# Altium integrated library TI Data Converters Digital to Analog Converter.IntLib: 1533 symbols (part 57 of 99)
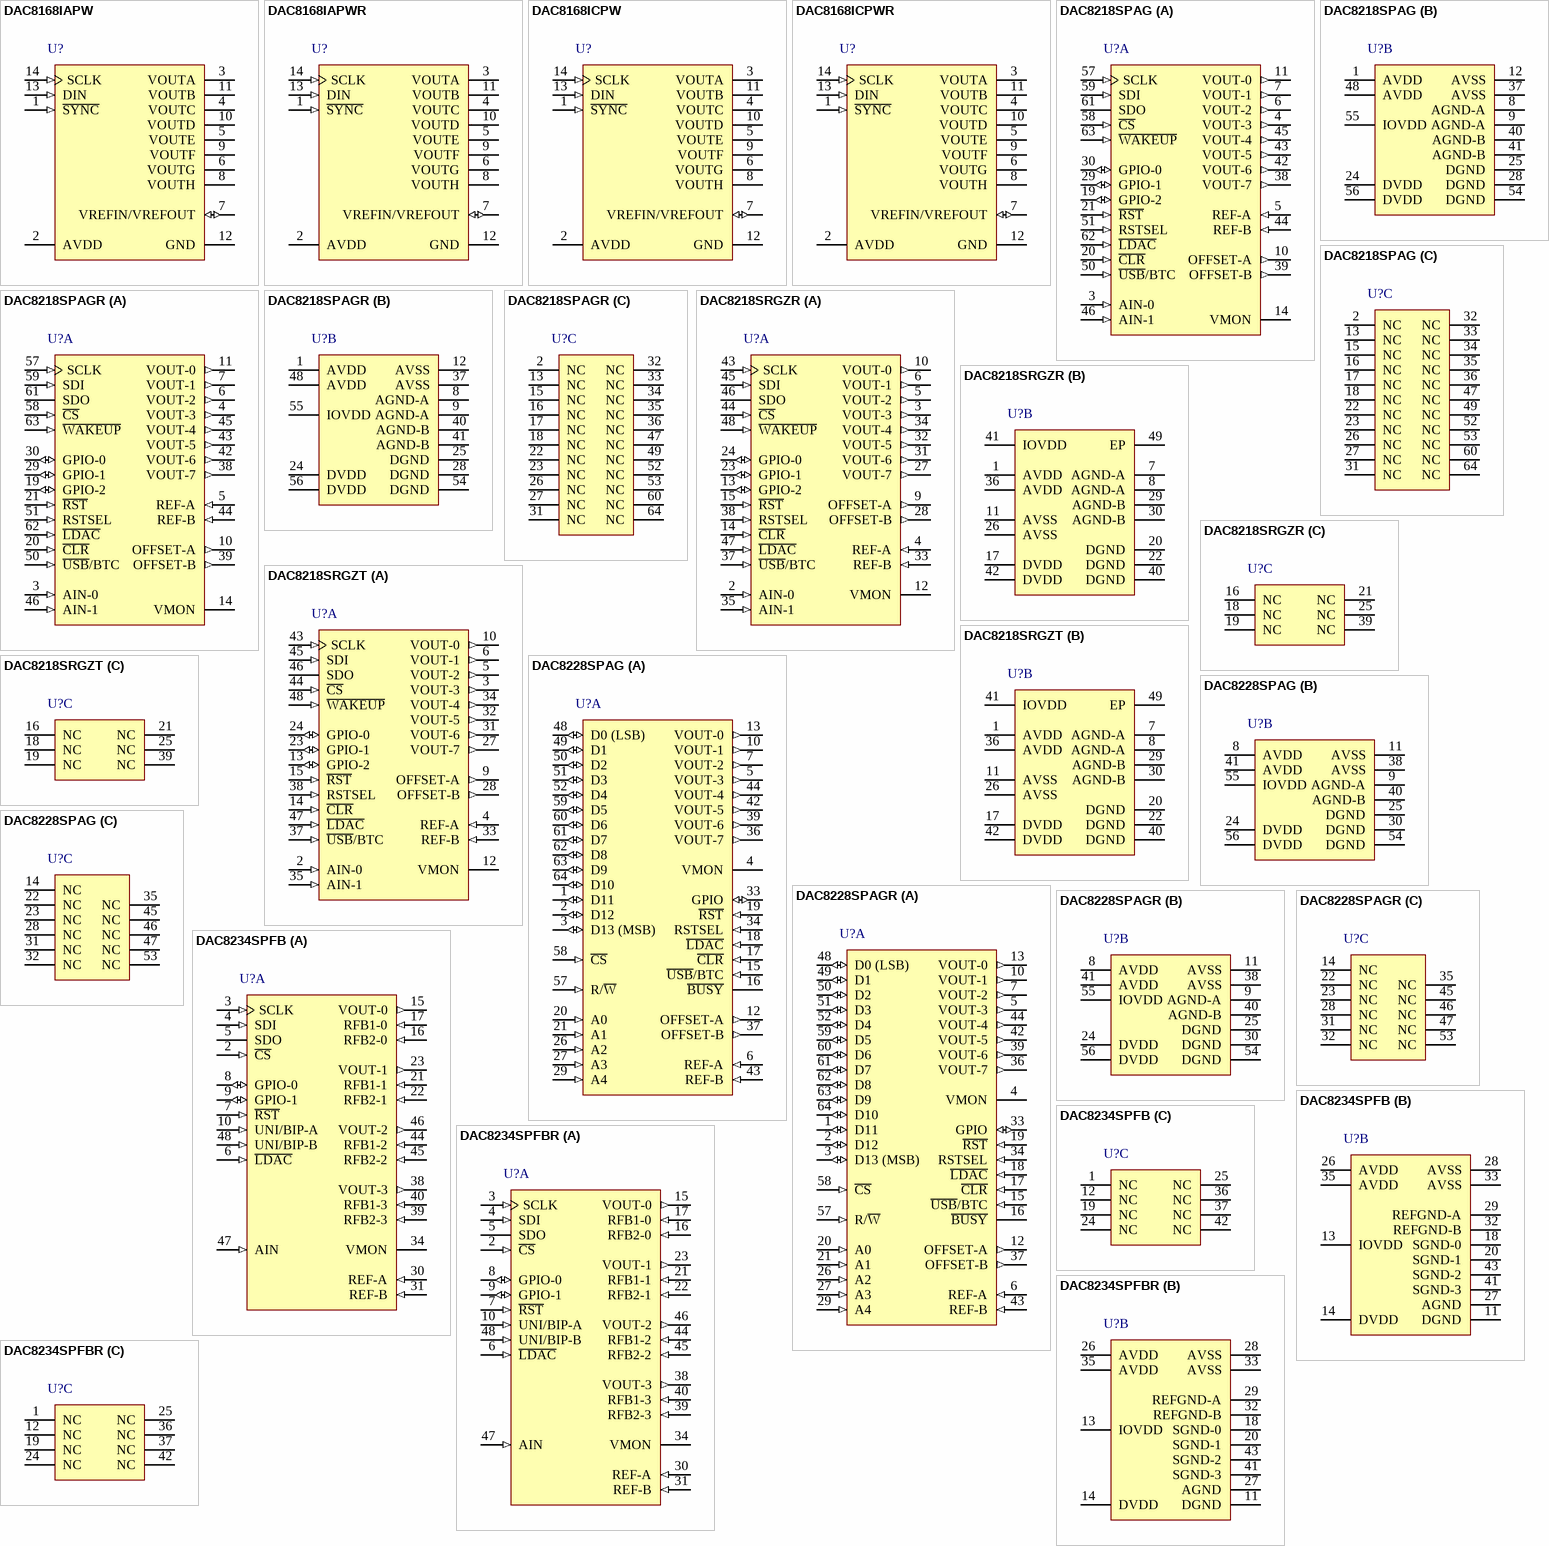
[diagram p129: symbols DAC8168IAPW to DAC8234SPFBR]

## DAC8234SPFB
designator U?
Quad 14-Bit High Accuracy +/- 16.5 V Output Serial Input DAC, -40 to 105 degC, 48-pin QFP (PFB48), Green (RoHS & no Sb/Br); Manufacturer: Texas Instruments; PartNumber: DAC8234SPFB; DAC Channels: 4; DNL(Max)(+/-LSB): 0.5; Interface: Serial SPI; Power Consumption(Typ)(mW): 290; Resolution(Bits): 14; Settling Time(us): 6; SubFamily: Precision DAC (=<10MSPS); DatasheetVersion: SBAS464A; PackageVersion: 4073176/B, 10/1996; PackageReference: PFB48; PackageDescription: 48-Pin Plastic Flat Pack, Body 7 x 7 mm, Pitch 0.5 mm; Supplier 1: Digi-Key; Supplier Part Number 1: 296-25115-ND; Supplier 2: Newark; Supplier Part Number 2: 50R7659; Supplier 3: Mouser; Supplier Part Number 3: 595-DAC8234SPFB; Eco-Plan: Green (RoHS & no Sb/Br); INL(Max)(+/-LSB): 0.5; Mounting Technology: Surface Mount; Code_JEDEC: MS-026; ComponentLink1Description: Manufacturer URL; ComponentLink1URL: http://www.ti.com/; ComponentLink2Description: Datasheet; ComponentLink2URL: http://www.ti.com/general/docs/lit/getliterature.tsp?genericPartNumber=DAC8234&fileType=pdf; ComponentLink3Description: Package Specification; ComponentLink3URL: http://www.ti.com/lit/ml/mtqf019a/mtqf019a.pdf
footprint TI-PFB48_N (QFP, 48-Leads, Body 7x7mm, Pitch 0.5mm, IPC Medium Density)
footprint TI-PFB48_L (QFP, 48-Leads, Body 7x7mm, Pitch 0.5mm, IPC High Density)
footprint TI-PFB48_M (QFP, 48-Leads, Body 7x7mm, Pitch 0.5mm, IPC Low Density)
part A pins: 2 ~{CS} (in) "SPI bus chip select input (active low). Data are not clocked into the SPI shift register unless C\S\ is low. When C\S\ is high, SDO is in a high-impedance state.", 3 SCLK (in) "SPI bus clock", 4 SDI (in) "SPI bus input data", 5 SDO (hiz) "SPI output data", 6 ~{LDAC} (in) "Load DAC latch control input (active low). When L\D\A\C\ is low, the DAC latch is transparent and the contents of the Input Data Register are transferred to it. The DAC output changes to the corresponding level (See Datasheet)", 7 ~{RST} (in) "Reset input (active low). Logic low on this pin resets the input registers and DACs to the values defined by the UNI/BIP pins, and sets the Gain Register and Zero Register to default values.", 8 GPIO-0 (io) "General-purpose digital input/output 0. This pin is a bidirectional, digital input/output, and has an open-drain output. A 10kO pull-up resistor to IOVDD is needed when this pin is used as an output. See the GPIO Pins (See Datasheet)", 9 GPIO-1 (io) "General-purpose digital input/output 1. This pin is a bidirectional, digital input/output, and has an open-drain output. A 10kO pull-up resistor to IOVDD is needed when this pin is used as an output. See the GPIO Pins (See Datasheet)", 10 UNI/BIP-A (in) "Output mode selection of group A (DAC-0 and DAC-1). When UNI/BIP-A is tied to IOVDD, group A is in unipolar output mode; when tied to DGND, group A is in bipolar output mode. The input data written to the DAC are straight (See Datasheet)", 15 VOUT-0 (out) "DAC-0 output", 16 RFB2-0 (in) "DAC-0 RFB2 feedback", 17 RFB1-0 (in) "DAC-0 RFB1 feedback", 21 RFB1-1 (in) "DAC-1 RFB1 feedback", 22 RFB2-1 (in) "DAC-1 RFB2 feedback", 23 VOUT-1 (out) "DAC-1 output", 30 REF-A (in) "Group A (DAC-0, DAC-1) reference input", 31 REF-B (in) "Group B (DAC-2, DAC-3) reference input", 34 VMON (hiz) "Analog monitor output. This pin is either in Hi-Z status, or connected to one of the four DAC outputs or AIN, depending on the content of the Monitor Register.", 38 VOUT-3 (out) "DAC-3 output", 39 RFB2-3 (in) "DAC-3 RFB2 feedback", 40 RFB1-3 (in) "DAC-3 RFB1 feedback", 44 RFB1-2 (in) "DAC-2 RFB1 feedback", 45 RFB2-2 (in) "DAC-2 RFB2 feedback", 46 VOUT-2 (out) "DAC-2 output", 47 AIN (in) "Auxiliary analog input. Connected to the analog monitor mux.", 48 UNI/BIP-B (in) "Output mode selection of group B (DAC-2 and DAC-3). When UNI/BIP-A is tied to IOVDD, group B is in unipolar output mode; when tied to DGND, group B is in bipolar output mode. The input data written to the DAC are straight (See Datasheet)"
part B pins: 11 DGND (power) "Digital ground", 13 IOVDD (power) "Interface power", 14 DVDD (power) "Digital power", 18 SGND-0 (power) "DAC-0 signal ground. Connected to REFGND-A.", 20 SGND-1 (power) "DAC-1 signal ground. Connected to REFGND-A.", 26 AVDD (power) "Positive analog power supply", 27 AGND (power) "Analog ground", 28 AVSS (power) "Negative analog power supply", 29 REFGND-A (power) "Reference REF-A ground. Connect to AGND.", 32 REFGND-B (power) "Reference REF-B ground. Connect to AGND.", 33 AVSS (power) "Negative analog power supply", 35 AVDD (power) "Positive analog power supply", 41 SGND-3 (power) "DAC-3 signal ground. Connected to REFGND-B.", 43 SGND-2 (power) "DAC-2 signal ground. Connected to REFGND-B."
part C pins: 1 NC "Not connected", 12 NC "Not connected", 19 NC "Not connected", 24 NC "Not connected", 25 NC "Not connected", 36 NC "Not connected", 37 NC "Not connected", 42 NC "Not connected"

## DAC8234SPFBR
designator U?
Quad 14-Bit High Accuracy +/- 16.5 V Output Serial Input DAC, -40 to 105 degC, 48-pin QFP (PFB48), Green (RoHS & no Sb/Br); Manufacturer: Texas Instruments; PartNumber: DAC8234SPFBR; DAC Channels: 4; DNL(Max)(+/-LSB): 0.5; Interface: Serial SPI; Power Consumption(Typ)(mW): 290; Resolution(Bits): 14; Settling Time(us): 6; SubFamily: Precision DAC (=<10MSPS); DatasheetVersion: SBAS464A; PackageVersion: 4073176/B, 10/1996; PackageReference: PFB48; PackageDescription: 48-Pin Plastic Flat Pack, Body 7 x 7 mm, Pitch 0.5 mm; Supplier 1: Digi-Key; Supplier Part Number 1: DAC8234SPFBR-ND; Supplier 2: Mouser; Supplier Part Number 2: 595-DAC8234SPFBR; Eco-Plan: Green (RoHS & no Sb/Br); INL(Max)(+/-LSB): 0.5; Mounting Technology: Surface Mount; Code_JEDEC: MS-026; ComponentLink1Description: Manufacturer URL; ComponentLink1URL: http://www.ti.com/; ComponentLink2Description: Datasheet; ComponentLink2URL: http://www.ti.com/general/docs/lit/getliterature.tsp?genericPartNumber=DAC8234&fileType=pdf; ComponentLink3Description: Package Specification; ComponentLink3URL: http://www.ti.com/lit/ml/mtqf019a/mtqf019a.pdf
footprint TI-PFB48_N (QFP, 48-Leads, Body 7x7mm, Pitch 0.5mm, IPC Medium Density)
footprint TI-PFB48_L (QFP, 48-Leads, Body 7x7mm, Pitch 0.5mm, IPC High Density)
footprint TI-PFB48_M (QFP, 48-Leads, Body 7x7mm, Pitch 0.5mm, IPC Low Density)
part A pins: 2 ~{CS} (in) "SPI bus chip select input (active low). Data are not clocked into the SPI shift register unless C\S\ is low. When C\S\ is high, SDO is in a high-impedance state.", 3 SCLK (in) "SPI bus clock", 4 SDI (in) "SPI bus input data", 5 SDO (hiz) "SPI output data", 6 ~{LDAC} (in) "Load DAC latch control input (active low). When L\D\A\C\ is low, the DAC latch is transparent and the contents of the Input Data Register are transferred to it. The DAC output changes to the corresponding level (See Datasheet)", 7 ~{RST} (in) "Reset input (active low). Logic low on this pin resets the input registers and DACs to the values defined by the UNI/BIP pins, and sets the Gain Register and Zero Register to default values.", 8 GPIO-0 (io) "General-purpose digital input/output 0. This pin is a bidirectional, digital input/output, and has an open-drain output. A 10kO pull-up resistor to IOVDD is needed when this pin is used as an output. See the GPIO Pins (See Datasheet)", 9 GPIO-1 (io) "General-purpose digital input/output 1. This pin is a bidirectional, digital input/output, and has an open-drain output. A 10kO pull-up resistor to IOVDD is needed when this pin is used as an output. See the GPIO Pins (See Datasheet)", 10 UNI/BIP-A (in) "Output mode selection of group A (DAC-0 and DAC-1). When UNI/BIP-A is tied to IOVDD, group A is in unipolar output mode; when tied to DGND, group A is in bipolar output mode. The input data written to the DAC are straight (See Datasheet)", 15 VOUT-0 (out) "DAC-0 output", 16 RFB2-0 (in) "DAC-0 RFB2 feedback", 17 RFB1-0 (in) "DAC-0 RFB1 feedback", 21 RFB1-1 (in) "DAC-1 RFB1 feedback", 22 RFB2-1 (in) "DAC-1 RFB2 feedback", 23 VOUT-1 (out) "DAC-1 output", 30 REF-A (in) "Group A (DAC-0, DAC-1) reference input", 31 REF-B (in) "Group B (DAC-2, DAC-3) reference input", 34 VMON (hiz) "Analog monitor output. This pin is either in Hi-Z status, or connected to one of the four DAC outputs or AIN, depending on the content of the Monitor Register.", 38 VOUT-3 (out) "DAC-3 output", 39 RFB2-3 (in) "DAC-3 RFB2 feedback", 40 RFB1-3 (in) "DAC-3 RFB1 feedback", 44 RFB1-2 (in) "DAC-2 RFB1 feedback", 45 RFB2-2 (in) "DAC-2 RFB2 feedback", 46 VOUT-2 (out) "DAC-2 output", 47 AIN (in) "Auxiliary analog input. Connected to the analog monitor mux.", 48 UNI/BIP-B (in) "Output mode selection of group B (DAC-2 and DAC-3). When UNI/BIP-A is tied to IOVDD, group B is in unipolar output mode; when tied to DGND, group B is in bipolar output mode. The input data written to the DAC are straight (See Datasheet)"
part B pins: 11 DGND (power) "Digital ground", 13 IOVDD (power) "Interface power", 14 DVDD (power) "Digital power", 18 SGND-0 (power) "DAC-0 signal ground. Connected to REFGND-A.", 20 SGND-1 (power) "DAC-1 signal ground. Connected to REFGND-A.", 26 AVDD (power) "Positive analog power supply", 27 AGND (power) "Analog ground", 28 AVSS (power) "Negative analog power supply", 29 REFGND-A (power) "Reference REF-A ground. Connect to AGND.", 32 REFGND-B (power) "Reference REF-B ground. Connect to AGND.", 33 AVSS (power) "Negative analog power supply", 35 AVDD (power) "Positive analog power supply", 41 SGND-3 (power) "DAC-3 signal ground. Connected to REFGND-B.", 43 SGND-2 (power) "DAC-2 signal ground. Connected to REFGND-B."
part C pins: 1 NC "Not connected", 12 NC "Not connected", 19 NC "Not connected", 24 NC "Not connected", 25 NC "Not connected", 36 NC "Not connected", 37 NC "Not connected", 42 NC "Not connected"

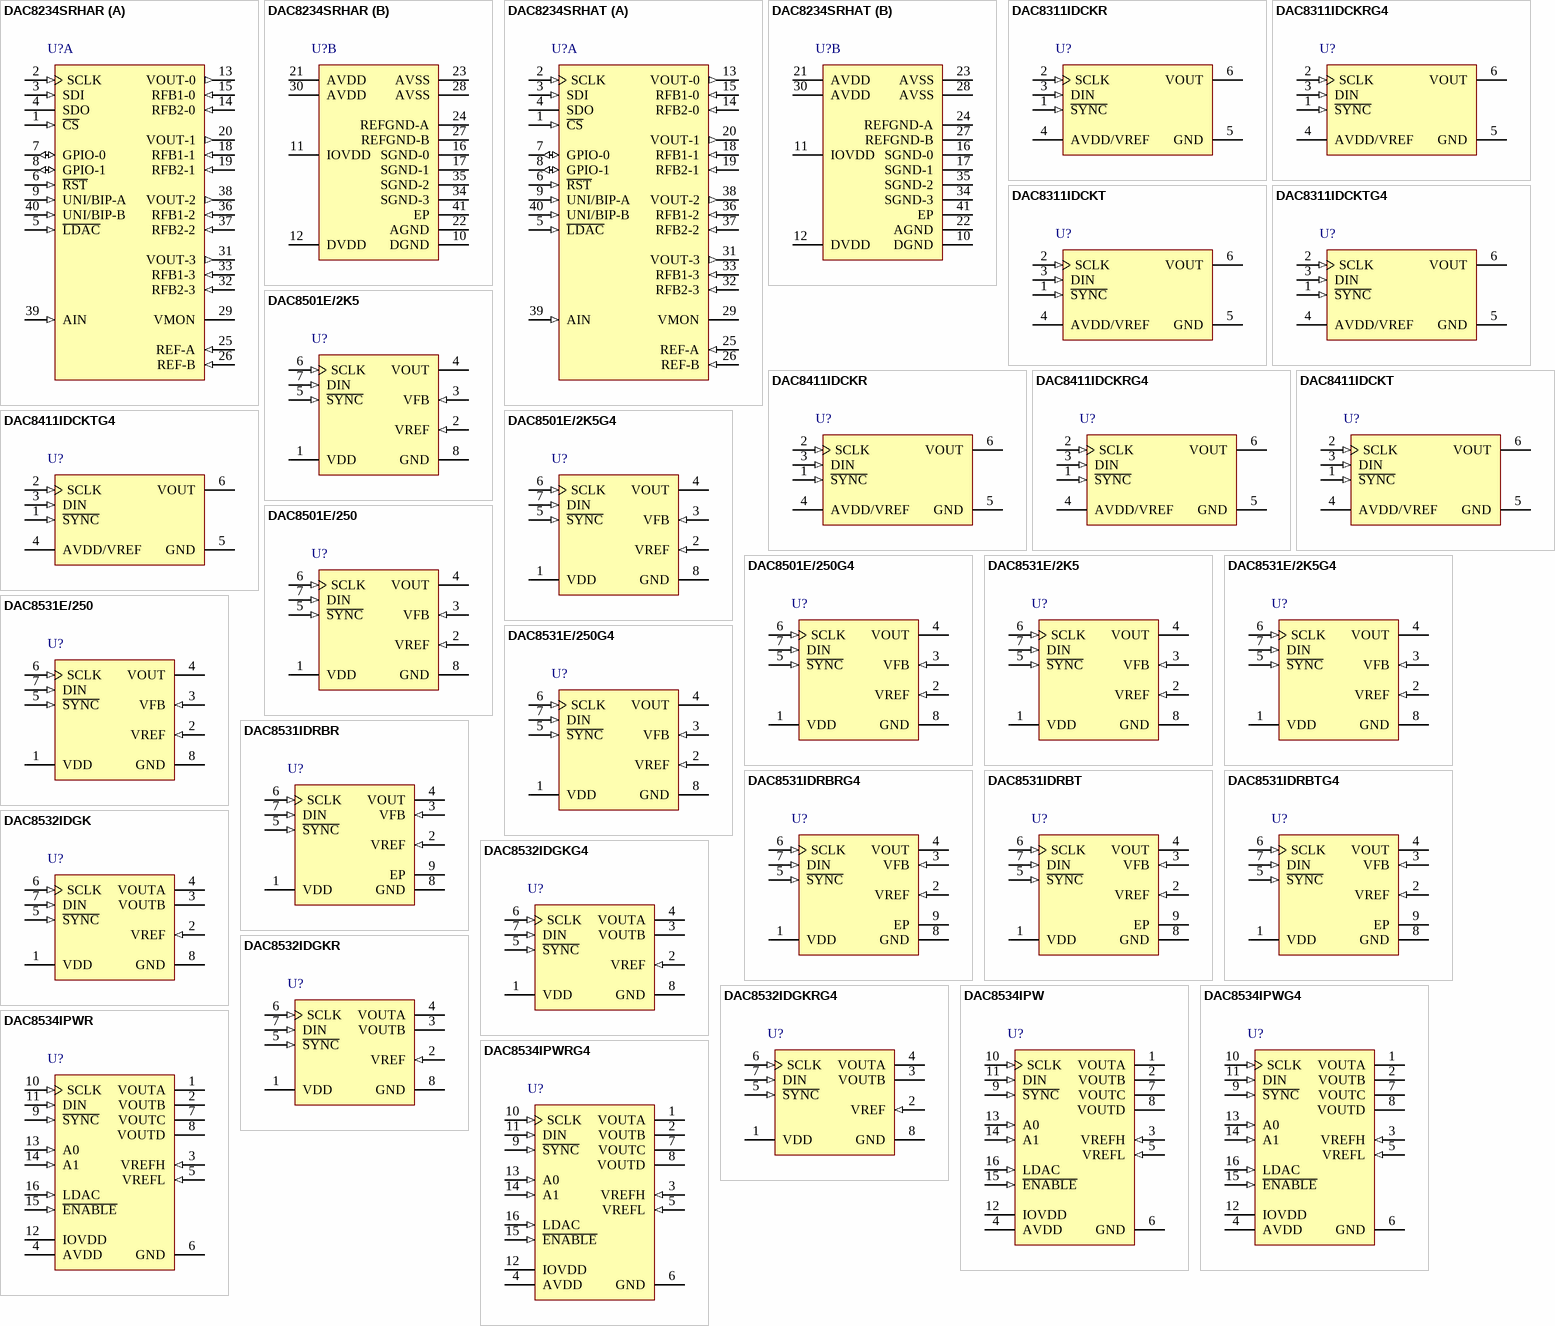
[diagram p45: symbols DAC8234SRHAR to DAC8534IPWRG4]

## DAC8234SRHAR
designator U?
Quad 14-Bit High Accuracy +/- 16.5 V Output Serial Input DAC, -40 to 105 degC, 40-pin QFN (RHA40), Green (RoHS & no Sb/Br); Manufacturer: Texas Instruments; PartNumber: DAC8234SRHAR; DAC Channels: 4; DNL(Max)(+/-LSB): 0.5; Interface: Serial SPI; Power Consumption(Typ)(mW): 290; Resolution(Bits): 14; Settling Time(us): 6; SubFamily: Precision DAC (=<10MSPS); DatasheetVersion: SBAS464A; PackageVersion: 4204276/E, 06/2011; PackageReference: RHA40-4500X4500TP; PackageDescription: 40-Pin Plastic Quad Flatpack No-Lead, Body 6 x 6 mm, Pitch 0.5 mm; Supplier 1: Digi-Key; Supplier Part Number 1: DAC8234SRHAR-ND; Supplier 2: Mouser; Supplier Part Number 2: 595-DAC8234SRHAR; Eco-Plan: Green (RoHS & no Sb/Br); INL(Max)(+/-LSB): 0.5; Mounting Technology: Surface Mount; Code_JEDEC: MO-220; ComponentLink1Description: Manufacturer URL; ComponentLink1URL: http://www.ti.com/; ComponentLink2Description: Datasheet; ComponentLink2URL: http://www.ti.com/general/docs/lit/getliterature.tsp?genericPartNumber=DAC8234&fileType=pdf; ComponentLink3Description: Package Specification; ComponentLink3URL: http://www.ti.com/litv/pdf/mpqf135c
footprint TI-RHA40-4500X4500TP_V (QFN, 40-Leads, Body 6x6mm, Pitch 0.5mm, Thermal Pad 4.5x4.5mm)
part A pins: 1 ~{CS} (in) "SPI bus chip select input (active low). Data are not clocked into the SPI shift register unless C\S\ is low. When C\S\ is high, SDO is in a high-impedance state.", 2 SCLK (in) "SPI bus clock", 3 SDI (in) "SPI bus input data", 4 SDO (hiz) "SPI output data", 5 ~{LDAC} (in) "Load DAC latch control input (active low). When L\D\A\C\ is low, the DAC latch is transparent and the contents of the Input Data Register are transferred to it. The DAC output changes to the corresponding level (See Datasheet)", 6 ~{RST} (in) "Reset input (active low). Logic low on this pin resets the input registers and DACs to the values defined by the UNI/BIP pins, and sets the Gain Register and Zero Register to default values.", 7 GPIO-0 (io) "General-purpose digital input/output 0. This pin is a bidirectional, digital input/output, and has an open-drain output. A 10kO pull-up resistor to IOVDD is needed when this pin is used as an output. See the GPIO Pins (See Datasheet)", 8 GPIO-1 (io) "General-purpose digital input/output 1. This pin is a bidirectional, digital input/output, and has an open-drain output. A 10kO pull-up resistor to IOVDD is needed when this pin is used as an output. See the GPIO Pins (See Datasheet)", 9 UNI/BIP-A (in) "Output mode selection of group A (DAC-0 and DAC-1). When UNI/BIP-A is tied to IOVDD, group A is in unipolar output mode; when tied to DGND, group A is in bipolar output mode. The input data written to the DAC are straight (See Datasheet)", 13 VOUT-0 (out) "DAC-0 output", 14 RFB2-0 (in) "DAC-0 RFB2 feedback", 15 RFB1-0 (in) "DAC-0 RFB1 feedback", 18 RFB1-1 (in) "DAC-1 RFB1 feedback", 19 RFB2-1 (in) "DAC-1 RFB2 feedback", 20 VOUT-1 (out) "DAC-1 output", 25 REF-A (in) "Group A (DAC-0, DAC-1) reference input", 26 REF-B (in) "Group B (DAC-2, DAC-3) reference input", 29 VMON (hiz) "Analog monitor output. This pin is either in Hi-Z status, or connected to one of the four DAC outputs or AIN, depending on the content of the Monitor Register.", 31 VOUT-3 (out) "DAC-3 output", 32 RFB2-3 (in) "DAC-3 RFB2 feedback", 33 RFB1-3 (in) "DAC-3 RFB1 feedback", 36 RFB1-2 (in) "DAC-2 RFB1 feedback", 37 RFB2-2 (in) "DAC-2 RFB2 feedback", 38 VOUT-2 (out) "DAC-2 output", 39 AIN (in) "Auxiliary analog input. Connected to the analog monitor mux.", 40 UNI/BIP-B (in) "Output mode selection of group B (DAC-2 and DAC-3). When UNI/BIP-A is tied to IOVDD, group B is in unipolar output mode; when tied to DGND, group B is in bipolar output mode. The input data written to the DAC are straight (See Datasheet)"
part B pins: 10 DGND (power) "Digital ground", 11 IOVDD (power) "Interface power", 12 DVDD (power) "Digital power", 16 SGND-0 (power) "DAC-0 signal ground. Connected to REFGND-A.", 17 SGND-1 (power) "DAC-1 signal ground. Connected to REFGND-A.", 21 AVDD (power) "Positive analog power supply", 22 AGND (power) "Analog ground", 23 AVSS (power) "Negative analog power supply", 24 REFGND-A (power) "Reference REF-A ground. Connect to AGND.", 27 REFGND-B (power) "Reference REF-B ground. Connect to AGND.", 28 AVSS (power) "Negative analog power supply", 30 AVDD (power) "Positive analog power supply", 34 SGND-3 (power) "DAC-3 signal ground. Connected to REFGND-B.", 35 SGND-2 (power) "DAC-2 signal ground. Connected to REFGND-B.", 41 EP "The thermal pad is internally connected to the substrate. This pad can be connected to AVSS or left floating."

## DAC8234SRHAT
designator U?
Quad 14-Bit High Accuracy +/- 16.5 V Output Serial Input DAC, -40 to 105 degC, 40-pin QFN (RHA40), Green (RoHS & no Sb/Br); Manufacturer: Texas Instruments; PartNumber: DAC8234SRHAT; DAC Channels: 4; DNL(Max)(+/-LSB): 0.5; Interface: Serial SPI; Power Consumption(Typ)(mW): 290; Resolution(Bits): 14; Settling Time(us): 6; SubFamily: Precision DAC (=<10MSPS); DatasheetVersion: SBAS464A; PackageVersion: 4204276/E, 06/2011; PackageReference: RHA40-4500X4500TP; PackageDescription: 40-Pin Plastic Quad Flatpack No-Lead, Body 6 x 6 mm, Pitch 0.5 mm; Supplier 1: Digi-Key; Supplier Part Number 1: 296-25116-2-ND; Supplier 2: Digi-Key; Supplier Part Number 2: 296-25116-1-ND; Supplier 3: Digi-Key; Supplier Part Number 3: 296-25116-6-ND; Supplier 4: Mouser; Supplier Part Number 4: 595-DAC8234SRHAT; Eco-Plan: Green (RoHS & no Sb/Br); INL(Max)(+/-LSB): 0.5; Mounting Technology: Surface Mount; Code_JEDEC: MO-220; ComponentLink1Description: Manufacturer URL; ComponentLink1URL: http://www.ti.com/; ComponentLink2Description: Datasheet; ComponentLink2URL: http://www.ti.com/general/docs/lit/getliterature.tsp?genericPartNumber=DAC8234&fileType=pdf; ComponentLink3Description: Package Specification; ComponentLink3URL: http://www.ti.com/litv/pdf/mpqf135c
footprint TI-RHA40-4500X4500TP_V (QFN, 40-Leads, Body 6x6mm, Pitch 0.5mm, Thermal Pad 4.5x4.5mm)
part A pins: 1 ~{CS} (in) "SPI bus chip select input (active low). Data are not clocked into the SPI shift register unless C\S\ is low. When C\S\ is high, SDO is in a high-impedance state.", 2 SCLK (in) "SPI bus clock", 3 SDI (in) "SPI bus input data", 4 SDO (hiz) "SPI output data", 5 ~{LDAC} (in) "Load DAC latch control input (active low). When L\D\A\C\ is low, the DAC latch is transparent and the contents of the Input Data Register are transferred to it. The DAC output changes to the corresponding level (See Datasheet)", 6 ~{RST} (in) "Reset input (active low). Logic low on this pin resets the input registers and DACs to the values defined by the UNI/BIP pins, and sets the Gain Register and Zero Register to default values.", 7 GPIO-0 (io) "General-purpose digital input/output 0. This pin is a bidirectional, digital input/output, and has an open-drain output. A 10kO pull-up resistor to IOVDD is needed when this pin is used as an output. See the GPIO Pins (See Datasheet)", 8 GPIO-1 (io) "General-purpose digital input/output 1. This pin is a bidirectional, digital input/output, and has an open-drain output. A 10kO pull-up resistor to IOVDD is needed when this pin is used as an output. See the GPIO Pins (See Datasheet)", 9 UNI/BIP-A (in) "Output mode selection of group A (DAC-0 and DAC-1). When UNI/BIP-A is tied to IOVDD, group A is in unipolar output mode; when tied to DGND, group A is in bipolar output mode. The input data written to the DAC are straight (See Datasheet)", 13 VOUT-0 (out) "DAC-0 output", 14 RFB2-0 (in) "DAC-0 RFB2 feedback", 15 RFB1-0 (in) "DAC-0 RFB1 feedback", 18 RFB1-1 (in) "DAC-1 RFB1 feedback", 19 RFB2-1 (in) "DAC-1 RFB2 feedback", 20 VOUT-1 (out) "DAC-1 output", 25 REF-A (in) "Group A (DAC-0, DAC-1) reference input", 26 REF-B (in) "Group B (DAC-2, DAC-3) reference input", 29 VMON (hiz) "Analog monitor output. This pin is either in Hi-Z status, or connected to one of the four DAC outputs or AIN, depending on the content of the Monitor Register.", 31 VOUT-3 (out) "DAC-3 output", 32 RFB2-3 (in) "DAC-3 RFB2 feedback", 33 RFB1-3 (in) "DAC-3 RFB1 feedback", 36 RFB1-2 (in) "DAC-2 RFB1 feedback", 37 RFB2-2 (in) "DAC-2 RFB2 feedback", 38 VOUT-2 (out) "DAC-2 output", 39 AIN (in) "Auxiliary analog input. Connected to the analog monitor mux.", 40 UNI/BIP-B (in) "Output mode selection of group B (DAC-2 and DAC-3). When UNI/BIP-A is tied to IOVDD, group B is in unipolar output mode; when tied to DGND, group B is in bipolar output mode. The input data written to the DAC are straight (See Datasheet)"
part B pins: 10 DGND (power) "Digital ground", 11 IOVDD (power) "Interface power", 12 DVDD (power) "Digital power", 16 SGND-0 (power) "DAC-0 signal ground. Connected to REFGND-A.", 17 SGND-1 (power) "DAC-1 signal ground. Connected to REFGND-A.", 21 AVDD (power) "Positive analog power supply", 22 AGND (power) "Analog ground", 23 AVSS (power) "Negative analog power supply", 24 REFGND-A (power) "Reference REF-A ground. Connect to AGND.", 27 REFGND-B (power) "Reference REF-B ground. Connect to AGND.", 28 AVSS (power) "Negative analog power supply", 30 AVDD (power) "Positive analog power supply", 34 SGND-3 (power) "DAC-3 signal ground. Connected to REFGND-B.", 35 SGND-2 (power) "DAC-2 signal ground. Connected to REFGND-B.", 41 EP "The thermal pad is internally connected to the substrate. This pad can be connected to AVSS or left floating."

## DAC8311IDCKR
designator U?
14-Bit, Single Channel, 80 uA, 1.8 to 5.5 V DAC, -40 to 125 degC, 6-pin SOT23 (DCK6), Green (RoHS & no Sb/Br); Manufacturer: Texas Instruments; PartNumber: DAC8311IDCKR; DAC Channels: 1; INL(Max)(+/-LSB): 4; Interface: Serial SPI; Power Consumption(Typ)(mW): 0.14; Resolution(Bits): 14; Settling Time(us): 6; SFDR(dB): 66; SNR(dB): 88; SubFamily: Precision DAC (=<10MSPS); DatasheetVersion: SBAS439B; PackageVersion: 4093553-4/G, 01/2007; PackageReference: DCK6; PackageDescription: 6-Pin Plastic Small Outline, Body 2 x 1.25 mm, Pitch 0.65 mm; Supplier 1: Digi-Key; Supplier Part Number 1: DAC8311IDCKR-ND; Supplier 2: Mouser; Supplier Part Number 2: 595-DAC8311IDCKR; DNL(Max)(+/-LSB): 1; Eco-Plan: Green (RoHS & no Sb/Br); Mounting Technology: Surface Mount; Code_JEDEC: MO-203; ComponentLink1Description: Manufacturer URL; ComponentLink1URL: http://www.ti.com/; ComponentLink2Description: Datasheet; ComponentLink2URL: http://www.ti.com/general/docs/lit/getliterature.tsp?genericPartNumber=DAC8311&fileType=pdf; ComponentLink3Description: Package Specification; ComponentLink3URL: http://www.ti.com/litv/pdf/mpds114c
footprint TI-DCK6_V (SOT23, 6-Leads, Body 2x1.25mm, Pitch 0.65mm)
pins: 1 ~{SYNC} (in) "Level-triggered control input (active low). This is the frame sychronization signal for the input data. When S\Y\N\C\ goes low, it enables the input shift register and data are transferred in on the falling edges of the (See Datasheet)", 2 SCLK (in) "Serial Clock Input. Data can be transferred at rates up to 50MHz.", 3 DIN (in) "Serial Data Input. Data is clocked into the 24-bit (DAC8411) or 16-bit (DAC8311) input shift register on the falling edge of the serial clock input.", 4 AVDD/VREF (power) "Power Supply Input, +2.0V to 5.5V.", 5 GND (power) "Ground reference point for all circuitry on the part.", 6 VOUT (hiz) "Analog output voltage from DAC. The output amplifier has rail-to-rail operation."

## DAC8311IDCKRG4
designator U?
14-Bit, Single Channel, 80 uA, 1.8 to 5.5 V DAC, -40 to 125 degC, 6-pin SOT23 (DCK6), Green (RoHS & no Sb/Br); Manufacturer: Texas Instruments; PartNumber: DAC8311IDCKRG4; DAC Channels: 1; INL(Max)(+/-LSB): 4; Interface: Serial SPI; Power Consumption(Typ)(mW): 0.14; Resolution(Bits): 14; Settling Time(us): 6; SFDR(dB): 66; SNR(dB): 88; SubFamily: Precision DAC (=<10MSPS); DatasheetVersion: SBAS439B; PackageVersion: 4093553-4/G, 01/2007; PackageReference: DCK6; PackageDescription: 6-Pin Plastic Small Outline, Body 2 x 1.25 mm, Pitch 0.65 mm; Supplier 1: Digi-Key; Supplier Part Number 1: DAC8311IDCKRG4-ND; Supplier 2: Mouser; Supplier Part Number 2: 595-DAC8311IDCKRG4; DNL(Max)(+/-LSB): 1; Eco-Plan: Green (RoHS & no Sb/Br); Mounting Technology: Surface Mount; Code_JEDEC: MO-203; ComponentLink1Description: Manufacturer URL; ComponentLink1URL: http://www.ti.com/; ComponentLink2Description: Datasheet; ComponentLink2URL: http://www.ti.com/general/docs/lit/getliterature.tsp?genericPartNumber=DAC8311&fileType=pdf; ComponentLink3Description: Package Specification; ComponentLink3URL: http://www.ti.com/litv/pdf/mpds114c
footprint TI-DCK6_V (SOT23, 6-Leads, Body 2x1.25mm, Pitch 0.65mm)
pins: 1 ~{SYNC} (in) "Level-triggered control input (active low). This is the frame sychronization signal for the input data. When S\Y\N\C\ goes low, it enables the input shift register and data are transferred in on the falling edges of the (See Datasheet)", 2 SCLK (in) "Serial Clock Input. Data can be transferred at rates up to 50MHz.", 3 DIN (in) "Serial Data Input. Data is clocked into the 24-bit (DAC8411) or 16-bit (DAC8311) input shift register on the falling edge of the serial clock input.", 4 AVDD/VREF (power) "Power Supply Input, +2.0V to 5.5V.", 5 GND (power) "Ground reference point for all circuitry on the part.", 6 VOUT (hiz) "Analog output voltage from DAC. The output amplifier has rail-to-rail operation."

## DAC8311IDCKT
designator U?
14-Bit, Single Channel, 80 uA, 1.8 to 5.5 V DAC, -40 to 125 degC, 6-pin SOT23 (DCK6), Green (RoHS & no Sb/Br); Manufacturer: Texas Instruments; PartNumber: DAC8311IDCKT; DAC Channels: 1; INL(Max)(+/-LSB): 4; Interface: Serial SPI; Power Consumption(Typ)(mW): 0.14; Resolution(Bits): 14; Settling Time(us): 6; SFDR(dB): 66; SNR(dB): 88; SubFamily: Precision DAC (=<10MSPS); DatasheetVersion: SBAS439B; PackageVersion: 4093553-4/G, 01/2007; PackageReference: DCK6; PackageDescription: 6-Pin Plastic Small Outline, Body 2 x 1.25 mm, Pitch 0.65 mm; Supplier 1: Digi-Key; Supplier Part Number 1: 296-23760-2-ND; Supplier 2: Digi-Key; Supplier Part Number 2: 296-23760-1-ND; Supplier 3: Digi-Key; Supplier Part Number 3: 296-23760-6-ND; Supplier 4: Farnell; Supplier Part Number 4: 1679771; Supplier 5: Newark; Supplier Part Number 5: 09P8596; Supplier 6: Mouser; Supplier Part Number 6: 595-DAC8311IDCKT; DNL(Max)(+/-LSB): 1; Eco-Plan: Green (RoHS & no Sb/Br); Mounting Technology: Surface Mount; Code_JEDEC: MO-203; ComponentLink1Description: Manufacturer URL; ComponentLink1URL: http://www.ti.com/; ComponentLink2Description: Datasheet; ComponentLink2URL: http://www.ti.com/general/docs/lit/getliterature.tsp?genericPartNumber=DAC8311&fileType=pdf; ComponentLink3Description: Package Specification; ComponentLink3URL: http://www.ti.com/litv/pdf/mpds114c
footprint TI-DCK6_V (SOT23, 6-Leads, Body 2x1.25mm, Pitch 0.65mm)
pins: 1 ~{SYNC} (in) "Level-triggered control input (active low). This is the frame sychronization signal for the input data. When S\Y\N\C\ goes low, it enables the input shift register and data are transferred in on the falling edges of the (See Datasheet)", 2 SCLK (in) "Serial Clock Input. Data can be transferred at rates up to 50MHz.", 3 DIN (in) "Serial Data Input. Data is clocked into the 24-bit (DAC8411) or 16-bit (DAC8311) input shift register on the falling edge of the serial clock input.", 4 AVDD/VREF (power) "Power Supply Input, +2.0V to 5.5V.", 5 GND (power) "Ground reference point for all circuitry on the part.", 6 VOUT (hiz) "Analog output voltage from DAC. The output amplifier has rail-to-rail operation."

## DAC8311IDCKTG4
designator U?
14-Bit, Single Channel, 80 uA, 1.8 to 5.5 V DAC, -40 to 125 degC, 6-pin SOT23 (DCK6), Green (RoHS & no Sb/Br); Manufacturer: Texas Instruments; PartNumber: DAC8311IDCKTG4; DAC Channels: 1; INL(Max)(+/-LSB): 4; Interface: Serial SPI; Power Consumption(Typ)(mW): 0.14; Resolution(Bits): 14; Settling Time(us): 6; SFDR(dB): 66; SNR(dB): 88; SubFamily: Precision DAC (=<10MSPS); DatasheetVersion: SBAS439B; PackageVersion: 4093553-4/G, 01/2007; PackageReference: DCK6; PackageDescription: 6-Pin Plastic Small Outline, Body 2 x 1.25 mm, Pitch 0.65 mm; Supplier 1: Digi-Key; Supplier Part Number 1: DAC8311IDCKTG4-ND; Supplier 2: Mouser; Supplier Part Number 2: 595-DAC8311IDCKTG4; DNL(Max)(+/-LSB): 1; Eco-Plan: Green (RoHS & no Sb/Br); Mounting Technology: Surface Mount; Code_JEDEC: MO-203; ComponentLink1Description: Manufacturer URL; ComponentLink1URL: http://www.ti.com/; ComponentLink2Description: Datasheet; ComponentLink2URL: http://www.ti.com/general/docs/lit/getliterature.tsp?genericPartNumber=DAC8311&fileType=pdf; ComponentLink3Description: Package Specification; ComponentLink3URL: http://www.ti.com/litv/pdf/mpds114c
footprint TI-DCK6_V (SOT23, 6-Leads, Body 2x1.25mm, Pitch 0.65mm)
pins: 1 ~{SYNC} (in) "Level-triggered control input (active low). This is the frame sychronization signal for the input data. When S\Y\N\C\ goes low, it enables the input shift register and data are transferred in on the falling edges of the (See Datasheet)", 2 SCLK (in) "Serial Clock Input. Data can be transferred at rates up to 50MHz.", 3 DIN (in) "Serial Data Input. Data is clocked into the 24-bit (DAC8411) or 16-bit (DAC8311) input shift register on the falling edge of the serial clock input.", 4 AVDD/VREF (power) "Power Supply Input, +2.0V to 5.5V.", 5 GND (power) "Ground reference point for all circuitry on the part.", 6 VOUT (hiz) "Analog output voltage from DAC. The output amplifier has rail-to-rail operation."

## DAC8411IDCKR
designator U?
16-Bit, Single Channel, 80 uA, 1.8 to 5.5 V DAC, -40 to 125 degC, 6-pin SOT23 (DCK6), Green (RoHS & no Sb/Br); Manufacturer: Texas Instruments; PartNumber: DAC8411IDCKR; DAC Channels: 1; DNL(Max)(+/-LSB): 2; INL(Max)(+/-LSB): 8; Interface: Serial SPI; Power Consumption(Typ)(mW): 0.14; Resolution(Bits): 16; Settling Time(us): 6; SFDR(dB): 66; SNR(dB): 88; SubFamily: Precision DAC (=<10MSPS); DatasheetVersion: SBAS439B; PackageVersion: 4093553-4/G, 01/2007; PackageReference: DCK6; PackageDescription: 6-Pin Plastic Small Outline, Body 2 x 1.25 mm, Pitch 0.65 mm; Supplier 1: Digi-Key; Supplier Part Number 1: DAC8411IDCKR-ND; Supplier 2: Newark; Supplier Part Number 2: 07P9065; Supplier 3: Mouser; Supplier Part Number 3: 595-DAC8411IDCKR; Eco-Plan: Green (RoHS & no Sb/Br); Mounting Technology: Surface Mount; Code_JEDEC: MO-203; ComponentLink1Description: Manufacturer URL; ComponentLink1URL: http://www.ti.com/; ComponentLink2Description: Datasheet; ComponentLink2URL: http://www.ti.com/general/docs/lit/getliterature.tsp?genericPartNumber=DAC8411&fileType=pdf; ComponentLink3Description: Package Specification; ComponentLink3URL: http://www.ti.com/litv/pdf/mpds114c
footprint TI-DCK6_V (SOT23, 6-Leads, Body 2x1.25mm, Pitch 0.65mm)
pins: 1 ~{SYNC} (in) "Level-triggered control input (active low). This is the frame sychronization signal for the input data. When S\Y\N\C\ goes low, it enables the input shift register and data are transferred in on the falling edges of the (See Datasheet)", 2 SCLK (in) "Serial Clock Input. Data can be transferred at rates up to 50MHz.", 3 DIN (in) "Serial Data Input. Data is clocked into the 24-bit (DAC8411) or 16-bit (DAC8311) input shift register on the falling edge of the serial clock input.", 4 AVDD/VREF (power) "Power Supply Input, +2.0V to 5.5V.", 5 GND (power) "Ground reference point for all circuitry on the part.", 6 VOUT (hiz) "Analog output voltage from DAC. The output amplifier has rail-to-rail operation."

## DAC8411IDCKRG4
designator U?
16-Bit, Single Channel, 80 uA, 1.8 to 5.5 V DAC, -40 to 125 degC, 6-pin SOT23 (DCK6), Green (RoHS & no Sb/Br); Manufacturer: Texas Instruments; PartNumber: DAC8411IDCKRG4; DAC Channels: 1; DNL(Max)(+/-LSB): 2; INL(Max)(+/-LSB): 8; Interface: Serial SPI; Power Consumption(Typ)(mW): 0.14; Resolution(Bits): 16; Settling Time(us): 6; SFDR(dB): 66; SNR(dB): 88; SubFamily: Precision DAC (=<10MSPS); DatasheetVersion: SBAS439B; PackageVersion: 4093553-4/G, 01/2007; PackageReference: DCK6; PackageDescription: 6-Pin Plastic Small Outline, Body 2 x 1.25 mm, Pitch 0.65 mm; Supplier 1: Digi-Key; Supplier Part Number 1: DAC8411IDCKRG4-ND; Supplier 2: Newark; Supplier Part Number 2: 34P3673; Supplier 3: Mouser; Supplier Part Number 3: 595-DAC8411IDCKRG4; Eco-Plan: Green (RoHS & no Sb/Br); Mounting Technology: Surface Mount; Code_JEDEC: MO-203; ComponentLink1Description: Manufacturer URL; ComponentLink1URL: http://www.ti.com/; ComponentLink2Description: Datasheet; ComponentLink2URL: http://www.ti.com/general/docs/lit/getliterature.tsp?genericPartNumber=DAC8411&fileType=pdf; ComponentLink3Description: Package Specification; ComponentLink3URL: http://www.ti.com/litv/pdf/mpds114c
footprint TI-DCK6_V (SOT23, 6-Leads, Body 2x1.25mm, Pitch 0.65mm)
pins: 1 ~{SYNC} (in) "Level-triggered control input (active low). This is the frame sychronization signal for the input data. When S\Y\N\C\ goes low, it enables the input shift register and data are transferred in on the falling edges of the (See Datasheet)", 2 SCLK (in) "Serial Clock Input. Data can be transferred at rates up to 50MHz.", 3 DIN (in) "Serial Data Input. Data is clocked into the 24-bit (DAC8411) or 16-bit (DAC8311) input shift register on the falling edge of the serial clock input.", 4 AVDD/VREF (power) "Power Supply Input, +2.0V to 5.5V.", 5 GND (power) "Ground reference point for all circuitry on the part.", 6 VOUT (hiz) "Analog output voltage from DAC. The output amplifier has rail-to-rail operation."

## DAC8411IDCKT
designator U?
16-Bit, Single Channel, 80 uA, 1.8 to 5.5 V DAC, -40 to 125 degC, 6-pin SOT23 (DCK6), Green (RoHS & no Sb/Br); Manufacturer: Texas Instruments; PartNumber: DAC8411IDCKT; DAC Channels: 1; DNL(Max)(+/-LSB): 2; INL(Max)(+/-LSB): 8; Interface: Serial SPI; Power Consumption(Typ)(mW): 0.14; Resolution(Bits): 16; Settling Time(us): 6; SFDR(dB): 66; SNR(dB): 88; SubFamily: Precision DAC (=<10MSPS); DatasheetVersion: SBAS439B; PackageVersion: 4093553-4/G, 01/2007; PackageReference: DCK6; PackageDescription: 6-Pin Plastic Small Outline, Body 2 x 1.25 mm, Pitch 0.65 mm; Supplier 1: Digi-Key; Supplier Part Number 1: 296-23761-2-ND; Supplier 2: Digi-Key; Supplier Part Number 2: 296-23761-1-ND; Supplier 3: Digi-Key; Supplier Part Number 3: 296-23761-6-ND; Supplier 4: Farnell; Supplier Part Number 4: 1679765; Supplier 5: Newark; Supplier Part Number 5: 33P6828; Supplier 6: Newark; Supplier Part Number 6: 07P9066; Supplier 7: Mouser; Supplier Part Number 7: 595-DAC8411IDCKT; Eco-Plan: Green (RoHS & no Sb/Br); Mounting Technology: Surface Mount; Code_JEDEC: MO-203; ComponentLink1Description: Manufacturer URL; ComponentLink1URL: http://www.ti.com/; ComponentLink2Description: Datasheet; ComponentLink2URL: http://www.ti.com/general/docs/lit/getliterature.tsp?genericPartNumber=DAC8411&fileType=pdf; ComponentLink3Description: Package Specification; ComponentLink3URL: http://www.ti.com/litv/pdf/mpds114c
footprint TI-DCK6_V (SOT23, 6-Leads, Body 2x1.25mm, Pitch 0.65mm)
pins: 1 ~{SYNC} (in) "Level-triggered control input (active low). This is the frame sychronization signal for the input data. When S\Y\N\C\ goes low, it enables the input shift register and data are transferred in on the falling edges of the (See Datasheet)", 2 SCLK (in) "Serial Clock Input. Data can be transferred at rates up to 50MHz.", 3 DIN (in) "Serial Data Input. Data is clocked into the 24-bit (DAC8411) or 16-bit (DAC8311) input shift register on the falling edge of the serial clock input.", 4 AVDD/VREF (power) "Power Supply Input, +2.0V to 5.5V.", 5 GND (power) "Ground reference point for all circuitry on the part.", 6 VOUT (hiz) "Analog output voltage from DAC. The output amplifier has rail-to-rail operation."

## DAC8411IDCKTG4
designator U?
16-Bit, Single Channel, 80 uA, 1.8 to 5.5 V DAC, -40 to 125 degC, 6-pin SOT23 (DCK6), Green (RoHS & no Sb/Br); Manufacturer: Texas Instruments; PartNumber: DAC8411IDCKTG4; DAC Channels: 1; DNL(Max)(+/-LSB): 2; INL(Max)(+/-LSB): 8; Interface: Serial SPI; Power Consumption(Typ)(mW): 0.14; Resolution(Bits): 16; Settling Time(us): 6; SFDR(dB): 66; SNR(dB): 88; SubFamily: Precision DAC (=<10MSPS); DatasheetVersion: SBAS439B; PackageVersion: 4093553-4/G, 01/2007; PackageReference: DCK6; PackageDescription: 6-Pin Plastic Small Outline, Body 2 x 1.25 mm, Pitch 0.65 mm; Supplier 1: Digi-Key; Supplier Part Number 1: DAC8411IDCKTG4-ND; Supplier 2: Mouser; Supplier Part Number 2: 595-DAC8411IDCKTG4; Eco-Plan: Green (RoHS & no Sb/Br); Mounting Technology: Surface Mount; Code_JEDEC: MO-203; ComponentLink1Description: Manufacturer URL; ComponentLink1URL: http://www.ti.com/; ComponentLink2Description: Datasheet; ComponentLink2URL: http://www.ti.com/general/docs/lit/getliterature.tsp?genericPartNumber=DAC8411&fileType=pdf; ComponentLink3Description: Package Specification; ComponentLink3URL: http://www.ti.com/litv/pdf/mpds114c
footprint TI-DCK6_V (SOT23, 6-Leads, Body 2x1.25mm, Pitch 0.65mm)
pins: 1 ~{SYNC} (in) "Level-triggered control input (active low). This is the frame sychronization signal for the input data. When S\Y\N\C\ goes low, it enables the input shift register and data are transferred in on the falling edges of the (See Datasheet)", 2 SCLK (in) "Serial Clock Input. Data can be transferred at rates up to 50MHz.", 3 DIN (in) "Serial Data Input. Data is clocked into the 24-bit (DAC8411) or 16-bit (DAC8311) input shift register on the falling edge of the serial clock input.", 4 AVDD/VREF (power) "Power Supply Input, +2.0V to 5.5V.", 5 GND (power) "Ground reference point for all circuitry on the part.", 6 VOUT (hiz) "Analog output voltage from DAC. The output amplifier has rail-to-rail operation."

## DAC8501E/2K5
designator U?
Multiplying, Low-Power, Rail-to-Rail Output, 16-Bit Serial Input DAC, -40 to 105 degC, 8-pin SOP (DGK8), Green (RoHS & no Sb/Br); Manufacturer: Texas Instruments; PartNumber: DAC8501E/2K5; DAC Channels: 1; INL(Max)(+/-LSB): 64; Interface: Serial SPI; Power Consumption(Typ)(mW): 0.72; Resolution(Bits): 16; Settling Time(us): 10; SubFamily: Precision DAC (=<10MSPS); DatasheetVersion: SBAS212A; PackageVersion: 4073329/E, 05/2006; PackageReference: DGK8; PackageDescription: 8-Pin Thin Small Outline, Body 3 x 3 mm, Pitch 0.65 mm; Supplier 1: Digi-Key; Supplier Part Number 1: DAC8501E/2K5-ND; Supplier 2: Mouser; Supplier Part Number 2: 595-DAC8501E/2K5; DNL(Max)(+/-LSB): 1; Eco-Plan: Green (RoHS & no Sb/Br); Mounting Technology: Surface Mount; Code_JEDEC: MO-187; ComponentLink1Description: Manufacturer URL; ComponentLink1URL: http://www.ti.com/; ComponentLink2Description: Datasheet; ComponentLink2URL: http://www.ti.com/general/docs/lit/getliterature.tsp?genericPartNumber=DAC8501&fileType=pdf; ComponentLink3Description: Package Specification; ComponentLink3URL: http://www.ti.com/litv/pdf/mpds028d
footprint TI-DGK8_N (SOP, 8-Leads, Body 3x3mm, Pitch 0.65mm, IPC Medium Density)
footprint TI-DGK8_L (SOP, 8-Leads, Body 3x3mm, Pitch 0.65mm, IPC High Density)
footprint TI-DGK8_M (SOP, 8-Leads, Body 3x3mm, Pitch 0.65mm, IPC Low Density)
pins: 1 VDD (power) "Power-Supply Input, +2.7V to +5.5V", 2 VREF (in) "Reference Voltage Input", 3 VFB (in) "Feedback connection for the output amplifier", 4 VOUT (hiz) "Analog output voltage from DAC. The output amplifier has rail-to-rail operation.", 5 ~{SYNC} (in) "Level-triggered control input (active LOW). This is the frame synchronization signal for the input data. When S\Y\N\C\ goes LOW, it enables the input shift register and data is transferred in on the falling edges of the (See Datasheet)", 6 SCLK (in) "Serial Clock Input. Data can be transferred at rates up to 30MHz.", 7 DIN (in) "Serial Data Input. Data is clocked into the 24-bit input shift register on the falling edge of the serial clock input.", 8 GND (power) "Ground reference point for all circuitry on the part."

## DAC8501E/2K5G4
designator U?
Multiplying, Low-Power, Rail-to-Rail Output, 16-Bit Serial Input DAC, -40 to 105 degC, 8-pin SOP (DGK8), Green (RoHS & no Sb/Br); Manufacturer: Texas Instruments; PartNumber: DAC8501E/2K5G4; DAC Channels: 1; INL(Max)(+/-LSB): 64; Interface: Serial SPI; Power Consumption(Typ)(mW): 0.72; Resolution(Bits): 16; Settling Time(us): 10; SubFamily: Precision DAC (=<10MSPS); DatasheetVersion: SBAS212A; PackageVersion: 4073329/E, 05/2006; PackageReference: DGK8; PackageDescription: 8-Pin Thin Small Outline, Body 3 x 3 mm, Pitch 0.65 mm; Supplier 1: Digi-Key; Supplier Part Number 1: DAC8501E/2K5G4-ND; Supplier 2: Mouser; Supplier Part Number 2: 595-DAC8501E/2K5G4; DNL(Max)(+/-LSB): 1; Eco-Plan: Green (RoHS & no Sb/Br); Mounting Technology: Surface Mount; Code_JEDEC: MO-187; ComponentLink1Description: Manufacturer URL; ComponentLink1URL: http://www.ti.com/; ComponentLink2Description: Datasheet; ComponentLink2URL: http://www.ti.com/general/docs/lit/getliterature.tsp?genericPartNumber=DAC8501&fileType=pdf; ComponentLink3Description: Package Specification; ComponentLink3URL: http://www.ti.com/litv/pdf/mpds028d
footprint TI-DGK8_N (SOP, 8-Leads, Body 3x3mm, Pitch 0.65mm, IPC Medium Density)
footprint TI-DGK8_L (SOP, 8-Leads, Body 3x3mm, Pitch 0.65mm, IPC High Density)
footprint TI-DGK8_M (SOP, 8-Leads, Body 3x3mm, Pitch 0.65mm, IPC Low Density)
pins: 1 VDD (power) "Power-Supply Input, +2.7V to +5.5V", 2 VREF (in) "Reference Voltage Input", 3 VFB (in) "Feedback connection for the output amplifier", 4 VOUT (hiz) "Analog output voltage from DAC. The output amplifier has rail-to-rail operation.", 5 ~{SYNC} (in) "Level-triggered control input (active LOW). This is the frame synchronization signal for the input data. When S\Y\N\C\ goes LOW, it enables the input shift register and data is transferred in on the falling edges of the (See Datasheet)", 6 SCLK (in) "Serial Clock Input. Data can be transferred at rates up to 30MHz.", 7 DIN (in) "Serial Data Input. Data is clocked into the 24-bit input shift register on the falling edge of the serial clock input.", 8 GND (power) "Ground reference point for all circuitry on the part."

## DAC8501E/250
designator U?
Multiplying, Low-Power, Rail-to-Rail Output, 16-Bit Serial Input DAC, -40 to 105 degC, 8-pin SOP (DGK8), Green (RoHS & no Sb/Br); Manufacturer: Texas Instruments; PartNumber: DAC8501E/250; DAC Channels: 1; INL(Max)(+/-LSB): 64; Interface: Serial SPI; Power Consumption(Typ)(mW): 0.72; Resolution(Bits): 16; Settling Time(us): 10; SubFamily: Precision DAC (=<10MSPS); DatasheetVersion: SBAS212A; PackageVersion: 4073329/E, 05/2006; PackageReference: DGK8; PackageDescription: 8-Pin Thin Small Outline, Body 3 x 3 mm, Pitch 0.65 mm; Supplier 1: Digi-Key; Supplier Part Number 1: DAC8501E/250TR-ND; Supplier 2: Digi-Key; Supplier Part Number 2: DAC8501E/250CT-ND; Supplier 3: Digi-Key; Supplier Part Number 3: DAC8501E/250DKR-ND; Supplier 4: Newark; Supplier Part Number 4: 74K3715; Supplier 5: Mouser; Supplier Part Number 5: 595-DAC8501E/250; DNL(Max)(+/-LSB): 1; Eco-Plan: Green (RoHS & no Sb/Br); Mounting Technology: Surface Mount; Code_JEDEC: MO-187; ComponentLink1Description: Manufacturer URL; ComponentLink1URL: http://www.ti.com/; ComponentLink2Description: Datasheet; ComponentLink2URL: http://www.ti.com/general/docs/lit/getliterature.tsp?genericPartNumber=DAC8501&fileType=pdf; ComponentLink3Description: Package Specification; ComponentLink3URL: http://www.ti.com/litv/pdf/mpds028d
footprint TI-DGK8_N (SOP, 8-Leads, Body 3x3mm, Pitch 0.65mm, IPC Medium Density)
footprint TI-DGK8_L (SOP, 8-Leads, Body 3x3mm, Pitch 0.65mm, IPC High Density)
footprint TI-DGK8_M (SOP, 8-Leads, Body 3x3mm, Pitch 0.65mm, IPC Low Density)
pins: 1 VDD (power) "Power-Supply Input, +2.7V to +5.5V", 2 VREF (in) "Reference Voltage Input", 3 VFB (in) "Feedback connection for the output amplifier", 4 VOUT (hiz) "Analog output voltage from DAC. The output amplifier has rail-to-rail operation.", 5 ~{SYNC} (in) "Level-triggered control input (active LOW). This is the frame synchronization signal for the input data. When S\Y\N\C\ goes LOW, it enables the input shift register and data is transferred in on the falling edges of the (See Datasheet)", 6 SCLK (in) "Serial Clock Input. Data can be transferred at rates up to 30MHz.", 7 DIN (in) "Serial Data Input. Data is clocked into the 24-bit input shift register on the falling edge of the serial clock input.", 8 GND (power) "Ground reference point for all circuitry on the part."

## DAC8501E/250G4
designator U?
Multiplying, Low-Power, Rail-to-Rail Output, 16-Bit Serial Input DAC, -40 to 105 degC, 8-pin SOP (DGK8), Green (RoHS & no Sb/Br); Manufacturer: Texas Instruments; PartNumber: DAC8501E/250G4; DAC Channels: 1; INL(Max)(+/-LSB): 64; Interface: Serial SPI; Power Consumption(Typ)(mW): 0.72; Resolution(Bits): 16; Settling Time(us): 10; SubFamily: Precision DAC (=<10MSPS); DatasheetVersion: SBAS212A; PackageVersion: 4073329/E, 05/2006; PackageReference: DGK8; PackageDescription: 8-Pin Thin Small Outline, Body 3 x 3 mm, Pitch 0.65 mm; Supplier 1: Digi-Key; Supplier Part Number 1: DAC8501E/250G4-ND; Supplier 2: Farnell; Supplier Part Number 2: 9324178; Supplier 3: Newark; Supplier Part Number 3: 38K0764; Supplier 4: Mouser; Supplier Part Number 4: 595-DAC8501E/250G4; DNL(Max)(+/-LSB): 1; Eco-Plan: Green (RoHS & no Sb/Br); Mounting Technology: Surface Mount; Code_JEDEC: MO-187; ComponentLink1Description: Manufacturer URL; ComponentLink1URL: http://www.ti.com/; ComponentLink2Description: Datasheet; ComponentLink2URL: http://www.ti.com/general/docs/lit/getliterature.tsp?genericPartNumber=DAC8501&fileType=pdf; ComponentLink3Description: Package Specification; ComponentLink3URL: http://www.ti.com/litv/pdf/mpds028d
footprint TI-DGK8_N (SOP, 8-Leads, Body 3x3mm, Pitch 0.65mm, IPC Medium Density)
footprint TI-DGK8_L (SOP, 8-Leads, Body 3x3mm, Pitch 0.65mm, IPC High Density)
footprint TI-DGK8_M (SOP, 8-Leads, Body 3x3mm, Pitch 0.65mm, IPC Low Density)
pins: 1 VDD (power) "Power-Supply Input, +2.7V to +5.5V", 2 VREF (in) "Reference Voltage Input", 3 VFB (in) "Feedback connection for the output amplifier", 4 VOUT (hiz) "Analog output voltage from DAC. The output amplifier has rail-to-rail operation.", 5 ~{SYNC} (in) "Level-triggered control input (active LOW). This is the frame synchronization signal for the input data. When S\Y\N\C\ goes LOW, it enables the input shift register and data is transferred in on the falling edges of the (See Datasheet)", 6 SCLK (in) "Serial Clock Input. Data can be transferred at rates up to 30MHz.", 7 DIN (in) "Serial Data Input. Data is clocked into the 24-bit input shift register on the falling edge of the serial clock input.", 8 GND (power) "Ground reference point for all circuitry on the part."

## DAC8531E/2K5
designator U?
Low Power, Rail-to-Rail Output, 16-Bit, Serial Input DAC, -40 to 105 degC, 8-pin SOP (DGK8), Green (RoHS & no Sb/Br); Manufacturer: Texas Instruments; PartNumber: DAC8531E/2K5; DAC Channels: 1; INL(Max)(+/-LSB): 64; Interface: Serial SPI; Power Consumption(Typ)(mW): 0.72; Resolution(Bits): 16; Settling Time(us): 10; SubFamily: Precision DAC (=<10MSPS); DatasheetVersion: SBAS192B; PackageVersion: 4073329/E, 05/2006; PackageReference: DGK8; PackageDescription: 8-Pin Thin Small Outline, Body 3 x 3 mm, Pitch 0.65 mm; Supplier 1: Digi-Key; Supplier Part Number 1: DAC8531E/2K5-ND; Supplier 2: Newark; Supplier Part Number 2: 74C9299; Supplier 3: Mouser; Supplier Part Number 3: 595-DAC8531E/2K5; DNL(Max)(+/-LSB): 1; Eco-Plan: Green (RoHS & no Sb/Br); Mounting Technology: Surface Mount; Code_JEDEC: MO-187; ComponentLink1Description: Manufacturer URL; ComponentLink1URL: http://www.ti.com/; ComponentLink2Description: Datasheet; ComponentLink2URL: http://www.ti.com/general/docs/lit/getliterature.tsp?genericPartNumber=DAC8531&fileType=pdf; ComponentLink3Description: Package Specification; ComponentLink3URL: http://www.ti.com/litv/pdf/mpds028d
footprint TI-DGK8_N (SOP, 8-Leads, Body 3x3mm, Pitch 0.65mm, IPC Medium Density)
footprint TI-DGK8_L (SOP, 8-Leads, Body 3x3mm, Pitch 0.65mm, IPC High Density)
footprint TI-DGK8_M (SOP, 8-Leads, Body 3x3mm, Pitch 0.65mm, IPC Low Density)
pins: 1 VDD (power) "Power-Supply Input, +2.7V to +5.5V", 2 VREF (in) "Reference Voltage Input", 3 VFB (in) "Feedback connection for the output amplifier", 4 VOUT (hiz) "Analog output voltage from DAC. The output amplifier has rail-to-rail operation.", 5 ~{SYNC} (in) "Level-triggered control input (active LOW). This is the frame synchronization signal for the input data. When S\Y\N\C\ goes LOW, it enables the input shift register and data is transferred in on the falling edges of the (See Datasheet)", 6 SCLK (in) "Serial Clock Input. Data can be transferred at rates up to 30MHz.", 7 DIN (in) "Serial Data Input. Data is clocked into the 24-bit input shift register on the falling edge of the serial clock input.", 8 GND (power) "Ground reference point for all circuitry on the part."

## DAC8531E/2K5G4
designator U?
Low Power, Rail-to-Rail Output, 16-Bit, Serial Input DAC, -40 to 105 degC, 8-pin SOP (DGK8), Green (RoHS & no Sb/Br); Manufacturer: Texas Instruments; PartNumber: DAC8531E/2K5G4; DAC Channels: 1; INL(Max)(+/-LSB): 64; Interface: Serial SPI; Power Consumption(Typ)(mW): 0.72; Resolution(Bits): 16; Settling Time(us): 10; SubFamily: Precision DAC (=<10MSPS); DatasheetVersion: SBAS192B; PackageVersion: 4073329/E, 05/2006; PackageReference: DGK8; PackageDescription: 8-Pin Thin Small Outline, Body 3 x 3 mm, Pitch 0.65 mm; Supplier 1: Digi-Key; Supplier Part Number 1: DAC8531E/2K5G4-ND; Supplier 2: Newark; Supplier Part Number 2: 73J8220; Supplier 3: Mouser; Supplier Part Number 3: 595-DAC8531E/2K5G4; DNL(Max)(+/-LSB): 1; Eco-Plan: Green (RoHS & no Sb/Br); Mounting Technology: Surface Mount; Code_JEDEC: MO-187; ComponentLink1Description: Manufacturer URL; ComponentLink1URL: http://www.ti.com/; ComponentLink2Description: Datasheet; ComponentLink2URL: http://www.ti.com/general/docs/lit/getliterature.tsp?genericPartNumber=DAC8531&fileType=pdf; ComponentLink3Description: Package Specification; ComponentLink3URL: http://www.ti.com/litv/pdf/mpds028d
footprint TI-DGK8_N (SOP, 8-Leads, Body 3x3mm, Pitch 0.65mm, IPC Medium Density)
footprint TI-DGK8_L (SOP, 8-Leads, Body 3x3mm, Pitch 0.65mm, IPC High Density)
footprint TI-DGK8_M (SOP, 8-Leads, Body 3x3mm, Pitch 0.65mm, IPC Low Density)
pins: 1 VDD (power) "Power-Supply Input, +2.7V to +5.5V", 2 VREF (in) "Reference Voltage Input", 3 VFB (in) "Feedback connection for the output amplifier", 4 VOUT (hiz) "Analog output voltage from DAC. The output amplifier has rail-to-rail operation.", 5 ~{SYNC} (in) "Level-triggered control input (active LOW). This is the frame synchronization signal for the input data. When S\Y\N\C\ goes LOW, it enables the input shift register and data is transferred in on the falling edges of the (See Datasheet)", 6 SCLK (in) "Serial Clock Input. Data can be transferred at rates up to 30MHz.", 7 DIN (in) "Serial Data Input. Data is clocked into the 24-bit input shift register on the falling edge of the serial clock input.", 8 GND (power) "Ground reference point for all circuitry on the part."